# EAGLE library part S511214 (library SeniorDesign)
70 MHz Bandpass Filter, 1.3 MHz Bandwidth Source: Datasheet <http://sawtron.com/wp-content/uploads/2018/10/S511214.pdf>
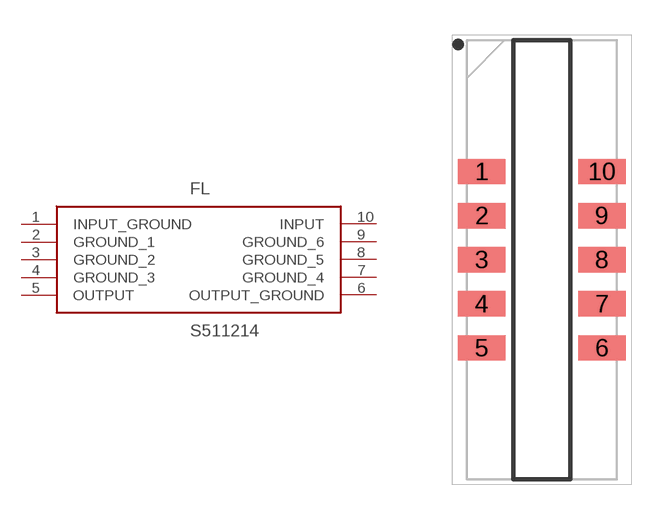
[diagram p4: symbol with the pads of S511214; footprint S511214]

Designator prefix FL

## S511214 (DESCRIPTION: 70 MHz Bandpass Filter, 1.3 MHz Bandwidth; HEIGHT: 2mm; MANUFACTURER_NAME: Sawtron; MANUFACTURER_PART_NUMBER: S511214)  [S511214]
1  INPUT_GROUND
2  GROUND_1
3  GROUND_2
4  GROUND_3
5  OUTPUT
6  OUTPUT_GROUND
7  GROUND_4
8  GROUND_5
9  GROUND_6
10  INPUT

## Footprint S511214 (pad centres in mm)
S511214
smd 2.05 x 1.1: 1 -2.6,3.82; 2 -2.6,1.91; 3 -2.6,0; 4 -2.6,-1.91; 5 -2.6,-3.82; 6 2.6,-3.82; 7 2.6,-1.91; 8 2.6,0; 9 2.6,1.91; 10 2.6,3.82